# EAGLE library part PCA9517A (library SteveMarple)
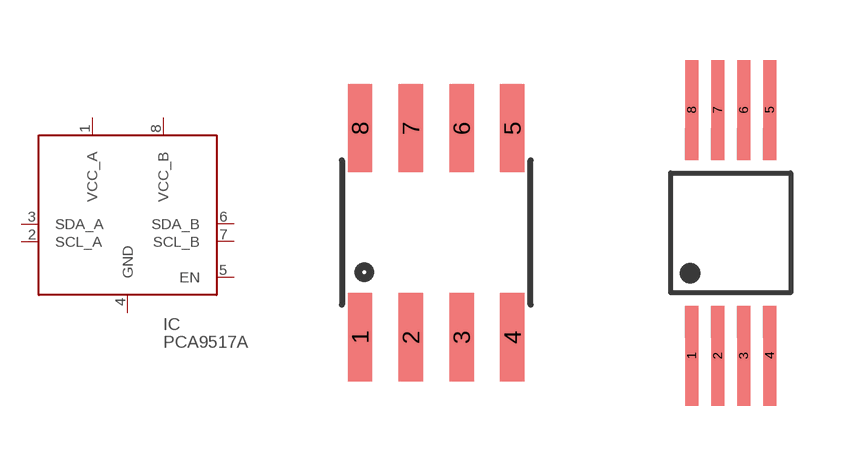
[diagram p37: symbol with the pads of SO08; footprints SO08, MICRO8-HAND]

Designator prefix IC

## PCA9517ASOIC  [SO08]
1  VCC_A  pwr
2  SCL_A
3  SDA_A
4  GND  pwr
5  EN
6  SDA_B
7  SCL_B
8  VCC_B  pwr

## PCA9517AMICRO8-HAND  [MICRO8-HAND]
Pads as for SO08

## Footprint SO08 (pad centres in mm)
smd 0.61 x 2.21: 1 -1.905,-2.616; 2 -0.635,-2.616; 3 0.635,-2.616; 4 1.905,-2.616; 5 1.905,2.616; 6 0.635,2.616; 7 -0.635,2.616; 8 -1.905,2.616

## Footprint MICRO8-HAND (pad centres in mm)
Micro8 With longer pads to allow for easier soldering by hand.
smd 0.325 x 2.5: 1 -0.975,-3.075; 2 -0.325,-3.075; 3 0.325,-3.075; 4 0.975,-3.075; 5 0.975,3.075; 6 0.325,3.075; 7 -0.325,3.075; 8 -0.975,3.075